# Altium schematic symbol library NMOS_SOT23.SchLib: 1 symbol
Pins are listed as number, name and electrical type; pins without a type are passive.

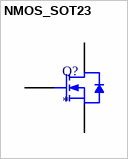
[diagram p0: symbol NMOS_SOT23]

## NMOS_SOT23
designator Q?
pins: 1 G, 2 S, 3 D